# Altium footprint library openbook.PcbLib: 46 footprints (part 2 of 3)
Each footprint in its own frame and in the unit in brackets; x right, y up, seen from the top. Pads: shape width x height; smd on the part's side, far side on the other; paste and mask are expansions set on the pad; w line width, h text height; cw(c..) or ccw(c..) is an arc to the next point about the centre after c.
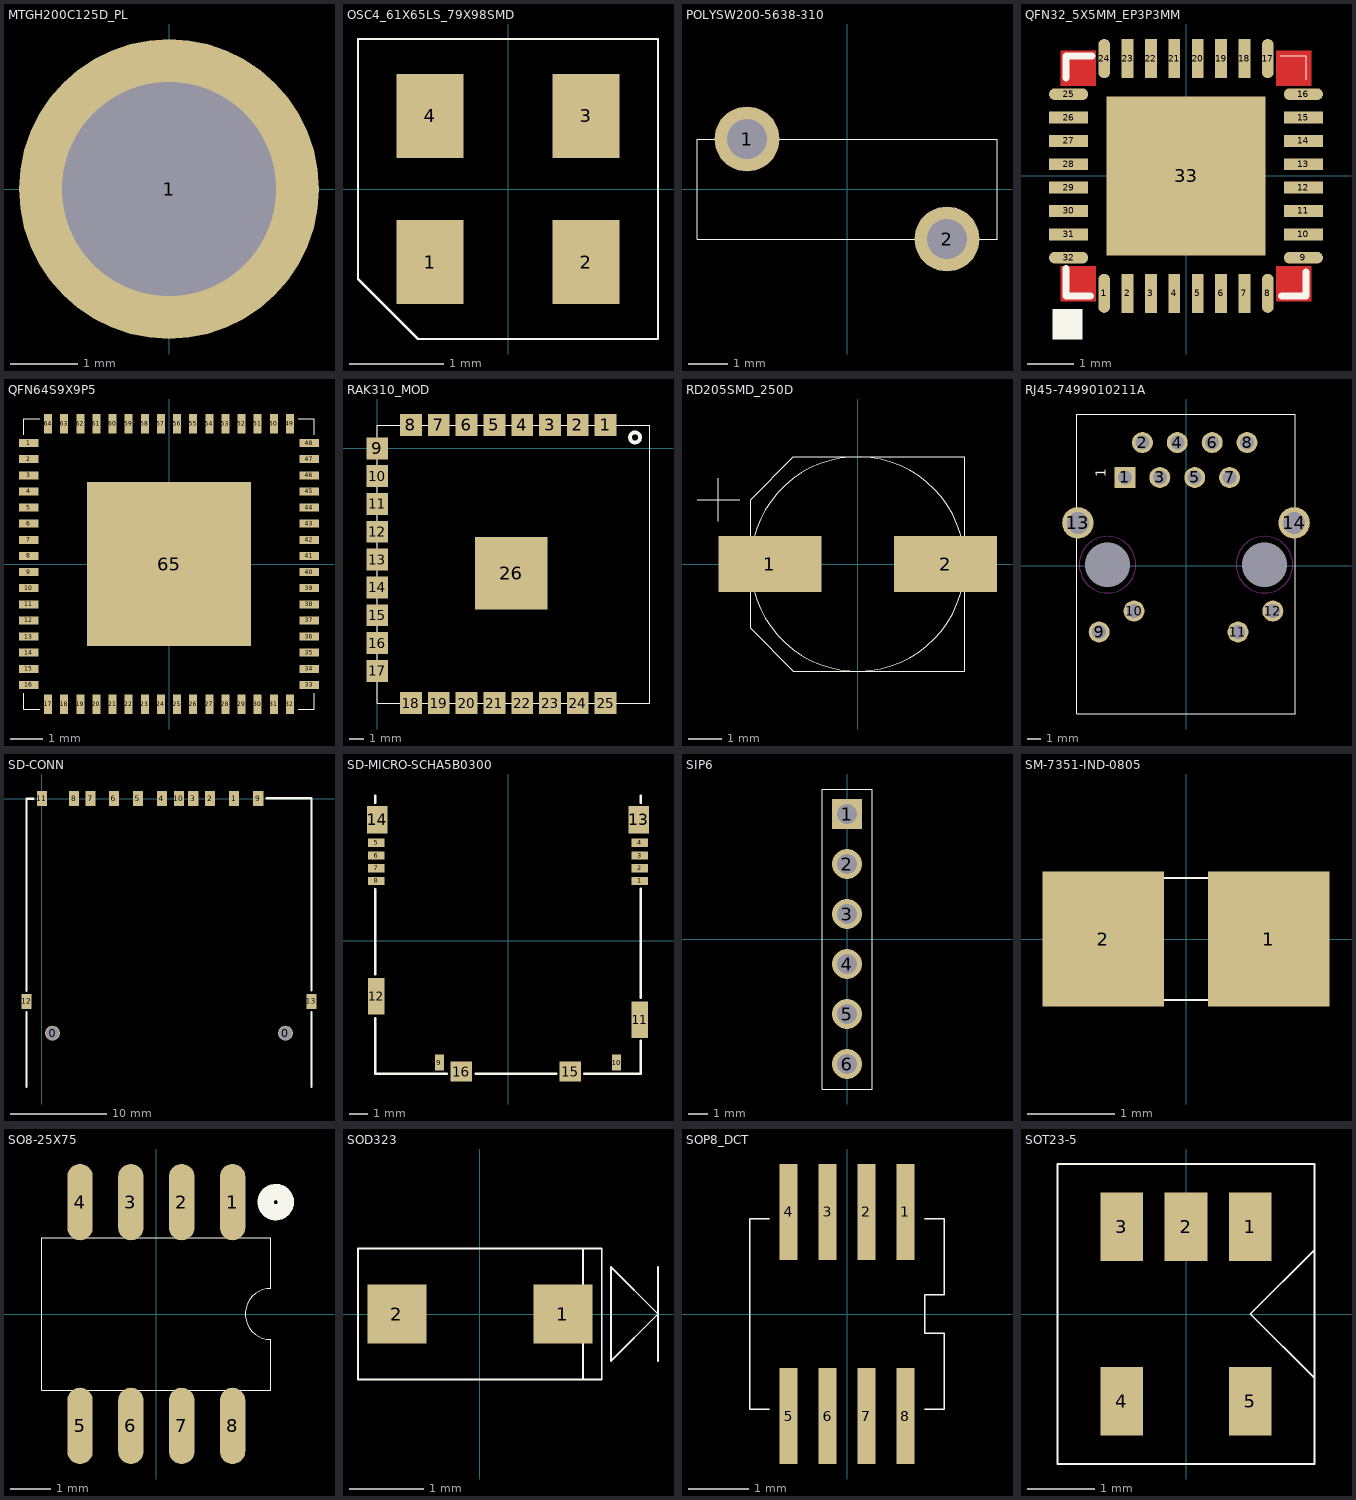
[diagram p1: the footprints below, top view; thin cyan lines are the x and y axes]

## MTGH200C125D_PL [mil]
pads (1):
  round 175 hole 125 mask+2: 1(0,0)

## OSC4_61X65LS_79X98SMD [mil]
pads (4):
  rect 28x35 smd mask+2: 1(-32.5,-30.5) 2(32.5,-30.5) 3(32.5,30.5) 4(-32.5,30.5)
Top Overlay:
  lines w1: -62.5,-37.5 -62.5,62.5 62.5,62.5 62.5,-62.5 -37.5,-62.5 -62.5,-37.5

## POLYSW200-5638-310 [mil]
pads (2):
  round 65 hole 40 mask+2: 1(-100,50) 2(100,-50)
Top Overlay:
  lines w1: -150,-50 -150,50 150,50 150,-50 -150,-50

## QFN32_5X5MM_EP3P3MM [mil]
pads (33):
  oval 10x33 smd mask+2: 1(-68.95,-99) 8(68.95,-99) 17(68.95,99) 24(-68.95,99)
  rect 10x33 smd mask+2: 2(-49.25,-99) 3(-29.55,-99) 4(-9.85,-99) 5(9.85,-99) 6(29.55,-99) 7(49.25,-99) 18(49.25,99) 19(29.55,99) 20(9.85,99) 21(-9.85,99) 22(-29.55,99) 23(-49.25,99)
  oval 33x10 smd mask+2: 9(99,-68.95) 16(99,68.95) 25(-99,68.95) 32(-99,-68.95)
  rect 33x10 smd mask+2: 10(99,-49.25) 11(99,-29.55) 12(99,-9.85) 13(99,9.85) 14(99,29.55) 15(99,49.25) 26(-99,49.25) 27(-99,29.55) 28(-99,9.85) 29(-99,-9.85) 30(-99,-29.55) 31(-99,-49.25)
  rect 134x134 smd mask+2: 33(0,0)
Top Layer:
  region: 76,-105.5 76,-76 105.5,-76 105.5,-105.5
  region: -105.5,-76 -105.5,-105.5 -76,-105.5 -76,-76
  region: -76,105.5 -76,76 -105.5,76 -105.5,105.5
  region: 76,105.5 76,76 105.5,76 105.5,105.5
Top Overlay:
  pour cut-out: -112.5,-112.5 -112.5,-137.5 -87.5,-137.5 -87.5,-112.5
  lines w1: 79.5,101.29 101.29,101.29 101.29,81
  lines w6: -101.29,-78 -101.29,-101.29 -80.5,-101.29 ; -101.29,82.5 -101.29,101.29 -79.5,101.29 ; 80.5,-101.29 101.29,-101.29 101.29,-81

## QFN64S9X9P5 [mm]
pads (65):
  rect 0.6x0.25 smd mask+0.051: 1(-4.35,3.75) 2(-4.35,3.25) 3(-4.35,2.75) 4(-4.35,2.25) 5(-4.35,1.75) 6(-4.35,1.25) 7(-4.35,0.75) 8(-4.35,0.25) 9(-4.35,-0.25) 10(-4.35,-0.75) 11(-4.35,-1.25) 12(-4.35,-1.75) 13(-4.35,-2.25) 14(-4.35,-2.75) 15(-4.35,-3.25) 16(-4.35,-3.75) 33(4.35,-3.75) 34(4.35,-3.25) 35(4.35,-2.75) 36(4.35,-2.25) 37(4.35,-1.75) 38(4.35,-1.25) 39(4.35,-0.75) 40(4.35,-0.25) 41(4.35,0.25) 42(4.35,0.75) 43(4.35,1.25) 44(4.35,1.75) 45(4.35,2.25) 46(4.35,2.75) 47(4.35,3.25) 48(4.35,3.75)
  rect 0.25x0.6 smd mask+0.051: 17(-3.75,-4.35) 18(-3.25,-4.35) 19(-2.75,-4.35) 20(-2.25,-4.35) 21(-1.75,-4.35) 22(-1.25,-4.35) 23(-0.75,-4.35) 24(-0.25,-4.35) 25(0.25,-4.35) 26(0.75,-4.35) 27(1.25,-4.35) 28(1.75,-4.35) 29(2.25,-4.35) 30(2.75,-4.35) 31(3.25,-4.35) 32(3.75,-4.35) 49(3.75,4.35) 50(3.25,4.35) 51(2.75,4.35) 52(2.25,4.35) 53(1.75,4.35) 54(1.25,4.35) 55(0.75,4.35) 56(0.25,4.35) 57(-0.25,4.35) 58(-0.75,4.35) 59(-1.25,4.35) 60(-1.75,4.35) 61(-2.25,4.35) 62(-2.75,4.35) 63(-3.25,4.35) 64(-3.75,4.35)
  rect 5.08x5.08 smd mask+0.051: 65(0,0)
Top Overlay:
  lines w0.025: -4.5,-4 -4.5,-4.5 -4,-4.5 ; -4.5,4 -4.5,4.5 -4,4.5 ; 4,-4.5 4.5,-4.5 4.5,-4 ; 4,4.5 4.5,4.5 4.5,4

## RAK310_MOD [mm]
pads (26):
  rect 1.5x1.5 smd: 1(15.68,1.61) 2(13.77,1.61) 3(11.86,1.61) 4(9.95,1.61) 5(8.04,1.61) 6(6.13,1.61) 7(4.22,1.61) 8(2.31,1.61) 9(0,0) 10(0,-1.91) 11(0,-3.82) 12(0,-5.73) 13(0,-7.64) 14(0,-9.55) 15(0,-11.46) 16(0,-13.37) 17(0,-15.28) 18(2.31,-17.495) 19(4.22,-17.495) 20(6.13,-17.495) 21(8.04,-17.495) 22(9.95,-17.495) 23(11.86,-17.495) 24(13.77,-17.495) 25(15.68,-17.495)
  rect 5x5 smd: 26(9.2,-8.575)
Top Overlay:
  circle w0.254: c17.7,0.75 r0.348
  lines w0.05: 0,-17.5 0,1.6 18.7,1.6 18.7,-17.5 0,-17.5

## RD205SMD_250D [mil]
pads (2):
  rect 120x65 smd mask+2: 1(-102.5,0) 2(102.5,0)
Top Overlay:
  circle w1: c0,0 r125
  lines w1: -187.5,75 -137.5,75 ; -162.5,50 -162.5,100 ; -125,-75 -125,75 -75,125 125,125 125,-125 -75,-125 -125,-75

## RJ45-7499010211A [mil]
pads (16):
  rect 60x60 hole 40 mask+2: 1(-175,252.5)
  round 60 hole 40 mask+2: 2(-125,352.5) 3(-75,252.5) 4(-25,352.5) 5(25,252.5) 6(75,352.5) 7(125,252.5) 8(175,352.5) 9(-249,-190.5) 10(-149,-130.5) 11(149,-190.5) 12(249,-130.5)
  round 90 hole 63 mask+2: 13(-310,122.5) 14(310,122.5)
  round 40 / inner round 150 / far side round 40 hole 128 mask+2: " "(-225,2.5) " "(225,2.5)
Top Overlay:
  lines w1: -313,-425.5 -313,434.5 313,434.5 313,-425.5 -313,-425.5
  text "1" at -230,252.5 h28
Multi-Layer keep-out:
  circle w1: c-225,2.5 r81
  circle w1: c225,2.5 r81

## SD-CONN [mm]
pads (15):
  round 1.55 hole 1.4: 0(1.1,-24.37) 0(25.3,-24.37)
  rect 1.05x1.56 smd: 1(19.97,0) 2(17.47,0) 3(15.72,0) 4(12.47,0) 5(9.97,0) 6(7.47,0) 7(5.05,0) 8(3.35,0) 9(22.47,0) 10(14.22,0) 11(0,0) 12(-1.6,-21.07) 13(28,-21.07)
Top Overlay:
  lines w0.254: -1.6,-29.95 -1.6,-22.2 ; -1.6,-19.975 -1.6,0 -0.875,0 ; 23.35,0.05 28,0.05 28,-19.925 ; 28,-29.95 28,-22.2

## SD-MICRO-SCHA5B0300 [mil]
pads (16):
  rect 36x18 smd mask+2: 1(285.72,130) 2(285.72,157.56) 3(285.72,185.12) 4(285.72,212.68) 5(-285.72,212.68) 6(-285.72,185.12) 7(-285.72,157.56) 8(-285.72,130)
  rect 20x35 smd mask+2: 9(-148.62,-263.28) 10(235.24,-263.28)
  rect 35x79 smd mask+2: 11(285.43,-170.59) 12(-285.43,-119.41)
  rect 44x60 smd mask+2: 13(283.32,262.48) 14(-283.32,262.48)
  rect 47x43 smd mask+2: 15(134.84,-282.91) 16(-101.37,-282.91)
Top Overlay:
  lines w5: -287.5,-167 -287.5,-287.5 -132.5,-287.5 ; -287.5,-72.5 -287.5,112.05 ; -287.5,299.5 -287.5,315 ; -70,-287.5 104.5,-287.5 ; 165.5,-287.5 287.5,-287.5 287.5,-215.5 ; 287.5,-123 287.5,113 ; 287.5,299.5 287.5,315

## SIP6 [mil]
pads (6):
  rect 60x60 hole 40 mask+2: 1(0,250)
  round 60 hole 40 mask+2: 2(0,150) 3(0,50) 4(0,-50) 5(0,-150) 6(0,-250)
Top Overlay:
  lines w1: -50,-300 50,-300 50,300 -50,300 -50,-300

## SM-7351-IND-0805 [mil]
pads (2):
  rect 55x61 smd mask+2: 1(37.4,0) 2(-37.4,0)
Top Overlay:
  lines w1: -43.31,-27.56 43.31,-27.56 43.31,27.56 -43.31,27.56 -43.31,-27.56

## SO8-25X75 [mil]
pads (8):
  oval 25x75 smd mask+2: 1(75,110) 2(25,110) 3(-25,110) 4(-75,110) 5(-75,-110) 6(-25,-110) 7(25,-110) 8(75,-110)
Top Overlay:
  circle w6: c117.5,110 r15
  circle w6: c117.5,110 r10
  circle w6: c117.5,110 r5
  lines w1: -112.5,-75 112.5,-75 112.5,-25 cw(c112.5,0) 112.5,25 112.5,75 -112.5,75 -112.5,-75

## SOD323 [mil]
pads (2):
  rect 31.5x31.5 smd mask+2: 1(44.29,0) 2(-44.29,0)
Top Overlay:
  lines w1: 55,-35 55,35 ; 95,-25 95,25 ; -65,-35 -65,35 65,35 65,-35 -65,-35 ; 70,-25 95,0 70,25 70,-25

## SOP8_DCT [mil]
pads (8):
  rect 12x63 smd mask+2: 1(38.4,67) 2(12.8,67) 3(-12.8,67) 4(-38.4,67) 5(-38.4,-67) 6(-12.8,-67) 7(12.8,-67) 8(38.4,-67)
Top Overlay:
  lines w1: -51.2,-62.5 -64,-62.5 -64,62.5 -51.2,62.5 ; 51.2,-62.5 64,-62.5 64,-12.5 51.2,-12.5 51.2,12.5 64,12.5 64,62.5 51.2,62.5

## SOT23-5 [mil]
pads (5):
  rect 25x40 smd mask+2: 1(37.5,51) 2(0,51) 3(-37.5,51) 4(-37.5,-51) 5(37.5,-51)
Top Overlay:
  lines w1: 75,-37.5 37.5,0 75,37.5 ; -75,-87.5 75,-87.5 75,87.5 -75,87.5 -75,-87.5